# Altium schematic symbol library smoor1.SchLib: 1 symbol
Pins are listed as number, name and electrical type; pins without a type are passive.

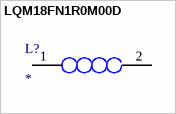
[diagram p0: symbol LQM18FN1R0M00D]

## LQM18FN1R0M00D
designator L?
Inductor; Manufacturer_Name: Murata Electronics; Manufacturer_Part_Number: LQM18FN1R0M00D; Datasheet Link: https://psearch.en.murata.com/inductor/product/LQM18FN1R0M00%23.html; Height: 0.9mm
footprint LQM18FN100M00D
pins: 1, 2